# EAGLE library part 68CH908QY2 (library Freescale)
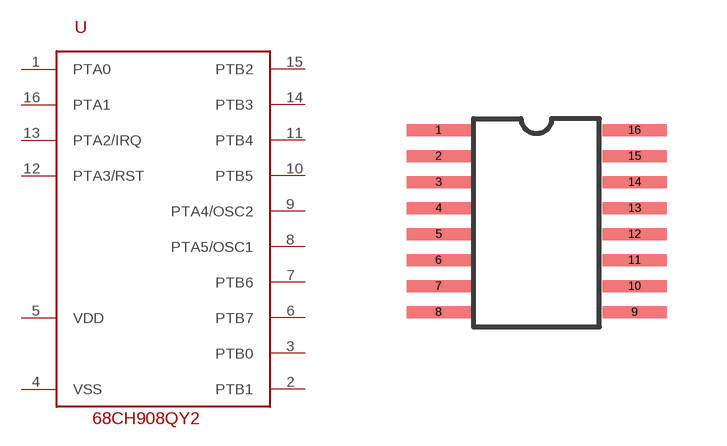
[diagram p5: symbol with the pads of TSSOP-16; footprint TSSOP-16]

Designator prefix U

## 68CH908QY2DT  [TSSOP-16]
1  PTA0
2  PTB1
3  PTB0
4  VSS  pwr
5  VDD  pwr
6  PTB7
7  PTB6
8  PTA5/OSC1
9  PTA4/OSC2
10  PTB5
11  PTB4
12  PTA3/RST
13  PTA2/IRQ
14  PTB3
15  PTB2
16  PTA1

## Footprint TSSOP-16 (pad centres in mm)
smd 1.6 x 0.3: 1 -2.449,2.25; 2 -2.449,1.6; 3 -2.449,0.95; 4 -2.449,0.3; 5 -2.449,-0.35; 6 -2.449,-1; 7 -2.449,-1.65; 8 -2.449,-2.3; 9 2.451,-2.3; 10 2.451,-1.65; 11 2.451,-1; 12 2.451,-0.35; 13 2.451,0.3; 14 2.451,0.95; 15 2.451,1.6; 16 2.451,2.25